# EAGLE library part XL6009 (library vfds)
STEP-DOWN VOLTAGE REGULATOR
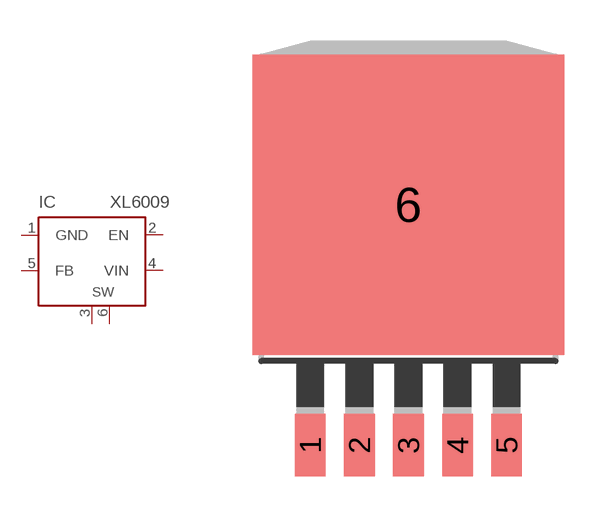
[diagram p2: symbol with the pads of TO263-5; footprint TO263-5]

Designator prefix IC

## XL6009  [TO263-5]
1  GND  in
2  EN  out
3  SW  pwr
4  VIN  in
5  FB  in
6  SW  pwr

## Footprint TO263-5 (pad centres in mm)
TO-263
smd 1.067 x 2.159: 1 -3.404,-5.791; 2 -1.702,-5.791; 3 0,-5.791; 4 1.702,-5.791; 5 3.404,-5.791
smd 10.8 x 10.41: 6 0,2.54